# EAGLE library part WE-PPTI_1208 (library WE-PPTI)
WE-PPTI Push-Pull Transformers Characteristics Small size Surface mount Low profile Operating temp: -40°C to 125°C Functional or Reinforced Insulation Applications Isolated interface power supply for CAN, RS-485, RS-422, RS-232, SPI, I2C, lower-power LAN Industrial automation Process control Medical equipment PLC analog and digital I/O modules Isolated gate driver power supplies AC motor drives Uninterruptible power supplies (UPS) Solar inverters Polyphase energy meters Protection relays and IEDs <https://www.we-online.com/components/media/o715993v209%20Family-PPTI.jpg> Details see: www.we-online.com/en/components/products/WE-PPTI <www.we-online.com/catalog/WE-PPTI/?utm_source=eagle_model&utm_medium=description_link&utm_campaign=eisos_eagle> Updated by Ella Wu 2024-09-11 2024 (C) Wurth Elektronik
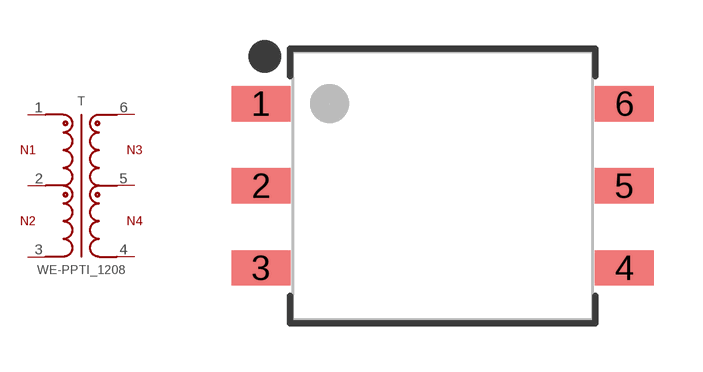
[diagram p7: symbol with the pads of WE-PPTI_1208_L12.6W8.3H4.1; footprint WE-PPTI_1208_L12.6W8.3H4.1]

Designator prefix T

## WE-PPTI_1208_750315371_L12.6W8.3H4.1 (DATASHEET-URL: https://www.we-online.com/redexpert/spec/750315371?ae; FSWITCH: 400kHz; HEIGHT: 4.1mm; IOUT1: 1000mA; L: 72uH; LENGTH: 12.6mm; MOUNT: SMT; N: 1:1.1; PART-NUMBER: 750315371; SIZE: 1208; TYPE-OF-INSULATION: Functional; VALUE: 750315371; VIN: 4.5 - 5.5 V (DC); VOLTAGE-TIME: 8.6Vus; VOUT1: 5V; VT: 2500 V(AC); WIDTH: 8.3mm), WE-PPTI_1208_750316028_L12.6W8.3H4.1 (DATASHEET-URL: https://www.we-online.com/redexpert/spec/750316028?ae; FSWITCH: 400kHz; HEIGHT: 4.1mm; IOUT1: 800mA; L: 86uH; LENGTH: 12.6mm; MOUNT: SMT; N: 1:1.75; PART-NUMBER: 750316028; SIZE: 1208; TYPE-OF-INSULATION: Functional; VALUE: 750316028; VIN: 3.3 V (DC); VOLTAGE-TIME: 13Vus; VOUT1: 3.3V; VT: 2500 V(AC); WIDTH: 8.3mm), WE-PPTI_1208_750316029_L12.6W8.3H4.1 (DATASHEET-URL: https://www.we-online.com/redexpert/spec/750316029?ae; FSWITCH: 400kHz; HEIGHT: 4.1mm; IOUT1: 600mA; L: 72uH; LENGTH: 12.6mm; MOUNT: SMT; N: 1:2.1; PART-NUMBER: 750316029; SIZE: 1208; TYPE-OF-INSULATION: Functional; VALUE: 750316029; VIN: 3.3 V (DC); VOLTAGE-TIME: 8.9Vus; VOUT1: 5V; VT: 2500 V(AC); WIDTH: 8.3mm), WE-PPTI_1208_750316030_L12.6W8.3H4.1 (DATASHEET-URL: https://www.we-online.com/redexpert/spec/750316030?ae; FSWITCH: 400kHz; HEIGHT: 4.1mm; IOUT1: 1200mA; L: 94uH; LENGTH: 12.6mm; MOUNT: SMT; N: 1.3:1; PART-NUMBER: 750316030; SIZE: 1208; TYPE-OF-INSULATION: Functional; VALUE: 750316030; VIN: 4.5 - 5.5 V (DC); VOLTAGE-TIME: 10.2Vus; VOUT1: 3.3V; VT: 2500 V(AC); WIDTH: 8.3mm), WE-PPTI_1208_750316818_L12.6W8.3H4.1 (DATASHEET-URL: https://www.we-online.com/redexpert/spec/750316818?ae; FSWITCH: 400kHz; HEIGHT: 4.1mm; IOUT1: 380mA; L: 86uH; LENGTH: 12.6mm; MOUNT: SMT; N: 1:3.5; PART-NUMBER: 750316818; SIZE: 1208; TYPE-OF-INSULATION: Functional; VALUE: 750316818; VIN: 5 V (DC); VOLTAGE-TIME: 9Vus; VOUT1: 17V; VT: 2500 V(AC); WIDTH: 8.3mm), WE-PPTI_1208_750316819_L12.6W8.3H4.1 (DATASHEET-URL: https://www.we-online.com/redexpert/spec/750316819?ae; FSWITCH: 400kHz; HEIGHT: 4.1mm; IOUT1: 460mA; L: 86uH; LENGTH: 12.6mm; MOUNT: SMT; N: 1:2.88; PART-NUMBER: 750316819; SIZE: 1208; TYPE-OF-INSULATION: Functional; VALUE: 750316819; VIN: 5 V (DC); VOLTAGE-TIME: 9Vus; VOUT1: 12V; VT: 2500 V(AC); WIDTH: 8.3mm)  [WE-PPTI_1208_L12.6W8.3H4.1]
1  1  pas
2  2  pas
3  3  pas
4  4  pas
5  5  pas
6  6  pas

## Footprint WE-PPTI_1208_L12.6W8.3H4.1 (pad centres in mm)
WE-PPTI Push-Pull Transformers Size: 1208, SMT, 6pins LXWXH=12.6X8.33X4.1mm
smd 1.83 x 1.09: 1 -5.62,2.54; 2 -5.62,0; 3 -5.62,-2.54; 4 5.62,-2.54; 5 5.62,0; 6 5.62,2.54